# Altium footprint library Imperial_Thru_Hole.PcbLib: 76 footprints (part 5 of 5)
Each footprint in its own frame and in the unit in brackets; x right, y up, seen from the top. Pads: shape width x height; smd on the part's side, far side on the other; paste and mask are expansions set on the pad; w line width, h text height; cw(c..) or ccw(c..) is an arc to the next point about the centre after c.
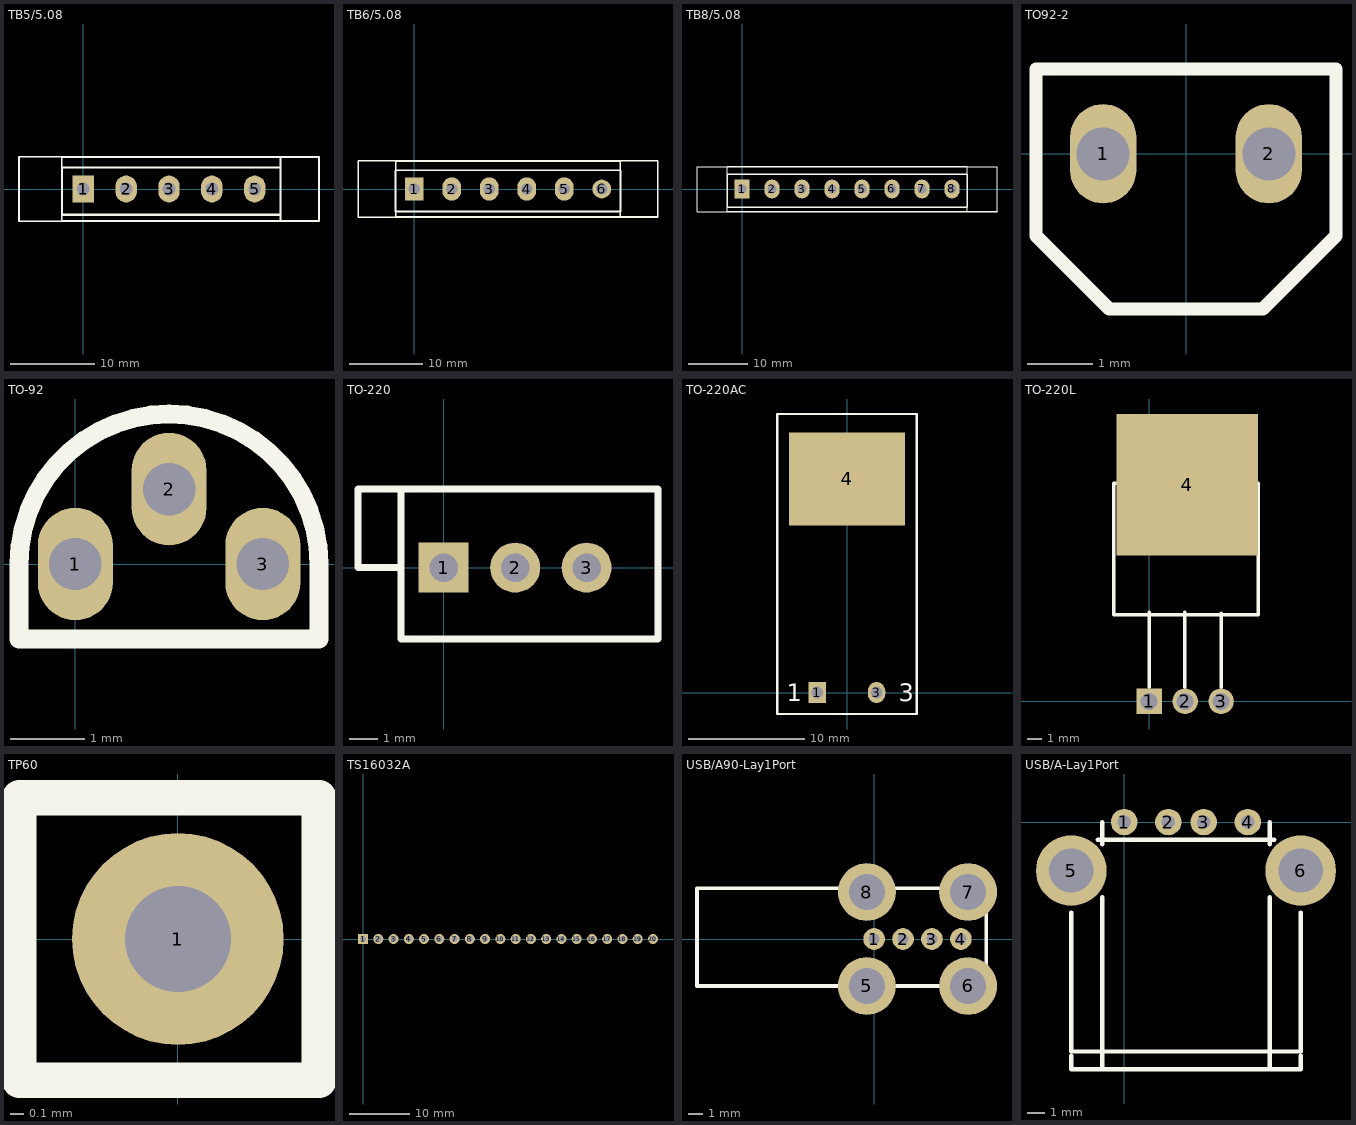
[diagram p4: the footprints below, top view; thin cyan lines are the x and y axes]

## TB5/5.08 [mil] "菲尼克斯5pin座patch=5.08mm/200mil"
height 120
pads (5):
  rect 100x125 hole 60: 1(0,0)
  oval 100x125 hole 60: 2(200,0) 3(400,0) 4(600,0) 5(800,0)
Top Overlay:
  lines w8: 920,-150 920,150 ; 1100,-150 1100,150 ; -100,-150 -100,150 ; -100,-150 -300,-150 -300,-100 -300,100 -300,150 -100,150 ; -100,-150 -100,150
  lines w10: -100,-150 1100,-150 ; -100,150 1100,150 ; 920,-120 -100,-120 -100,100 920,100
3D body "1776537.stp": height 338.58, standoff -137.8, extent -300,-80 1100,392.53

## TB6/5.08 [mil] "菲尼克斯6pin座patch=5.08mm/200mil"
height 120
pads (6):
  rect 100x125 hole 60: 1(0,0)
  oval 100x125 hole 60: 2(200,0) 3(400,0) 4(600,0) 5(800,0)
  round 100 hole 60: 6(1000,0)
Top Overlay:
  lines w8: 1300,-149 1300,-100 1300,100 1300,150 1100,150 ; -100,-150 -100,150 ; -100,-150 -300,-150 -300,-100 -300,100 -300,150 -100,150 ; -100,-150 -100,150 ; 1100,150 1100,-150 1100,150
  lines w10: -100,-150 1100,-150 1299,-150 ; -100,150 1100,150 ; -100,-120 1100,-120 1100,100 -100,100 -100,-120
3D body: height 199.92, standoff 120.08, extent 960.32,-280 1040,20
3D body: height 199.92, standoff 120.08, extent 760.32,-280 840,20
3D body: height 199.92, standoff 120.08, extent 560.32,-280 640,20
3D body: height 199.92, standoff 120.08, extent 360.32,-280 440,20
3D body: height 199.92, standoff 120.08, extent 160.32,-280 240,20
3D body: height 199.92, standoff 120.08, extent -39.68,-280 40,20
3D body: height 40, standoff 1, extent -300,-310 1300,130
3D body: height 320, standoff 1, extent -295,-20 1305,140
3D body: height 320, standoff 1, extent -300,-310 -220,140
3D body: height 320, standoff 1, extent 1300,-310 1380,140
3D body: height 320, standoff 280, extent -260,-310 1340,130

## TB8/5.08 [mil] "菲尼克斯8pin座patch=5.08mm/200mil"
height 120
pads (8):
  rect 100x125 hole 60: 1(0,0)
  oval 100x125 hole 60: 2(200,0) 3(400,0) 4(600,0) 5(800,0) 6(1000,0) 7(1200,0) 8(1400,0)
Top Overlay:
  lines w8: 1100,150 1700,150 1700,-150 ; 1500,-150 1500,150 ; -100,-150 -100,150 ; -100,-150 -300,-150 -300,-100 -300,100 -300,150 -100,150 ; -100,-150 -100,150
  lines w10: -100,-150 1500,-150 ; -100,150 1500,150 ; 1100,-150 1700,-150 ; -100,-120 1500,-120 1500,100 -100,100 -100,-120
3D body: height 199.92, standoff 120.08, extent 960.32,-280 1040,20
3D body: height 199.92, standoff 120.08, extent 760.32,-280 840,20
3D body: height 199.92, standoff 120.08, extent 560.32,-280 640,20
3D body: height 199.92, standoff 120.08, extent 360.32,-280 440,20
3D body: height 199.92, standoff 120.08, extent 160.32,-280 240,20
3D body: height 199.92, standoff 120.08, extent -39.68,-280 40,20
3D body: height 40, standoff 1, extent -300,-310 1690,130
3D body: height 320, standoff 1, extent -295,-20 1690,140
3D body: height 320, standoff 1, extent -300,-310 -220,140
3D body: height 320, standoff 1, extent 1620,-310 1700,140
3D body: height 320, standoff 280, extent -260,-310 1690,130
3D body: height 199.92, standoff 120.08, extent 1160,-280 1239.68,20
3D body: height 199.92, standoff 120.08, extent 1360,-280 1439.68,20

## TO92-2 [mil]
pads (2):
  oval 40x60 hole 32: 1(-50,0) 2(50,0)
Top Overlay:
  lines w8: -90.55,51.18 -90.55,-49.45 -46.3,-93.7 46.3,-93.7 90.55,-49.45 90.55,51.18 ; -90,51.18 90,51.18
3D body "SW3dPS-TO-92B.STEP": height 275.59, standoff -158.38, extent -104.49,-94.49 84.49,60.23

## TO-92 [mil] "pitch=50mil"
height 160
pads (3):
  oval 40x60 hole 28: 1(0,0) 2(50,40) 3(100,0)
Top Overlay:
  lines w10: -30.06,0 cw(c49.97,0) 130,0 130,-40 -30,-40 -30,0
3D body "SW3dPS-TO-92B.STEP": height 275.59, standoff -158.38, extent -48.98,-57.36 140,97.36

## TO-220 [mil] "TO220立式封装"
height 393.7
pads (3):
  rect 70x70 hole 40: 1(0,0)
  round 70 hole 40: 2(100,0) 3(200,0)
Top Overlay:
  lines w10: -110,110 300,110 300,-100 -60,-100 -60,110 -120,110 -120,0 -60,0

## TO-220AC [mm] "TO-220AC CASE 221B STYLE2"
height 15.1
pads (3):
  rect 1.5x1.8 hole 1: 1(-2.55,0)
  oval 1.5x1.8 hole 1: 3(2.55,0)
  rect 10x8 smd mask+0.75: 4(0,18.415)
Top Overlay:
  lines w0.2: -6,24.003 -6,20.924 -6,2.85 -6,-1.85 -4.445,-1.85 4.572,-1.85 6,-1.85 6,2.85 6,20.859 6,23.972 ; -5.904,24.003 -2.921,24.003 5.969,24.003
  text "3" at 4.445,-0.762 h1.5
  text "1" at -5.207,-0.762 h1.5
3D body "User Library-TO-220AC_BENT.STEP": height 4.2, standoff -1.65, extent -5.334,-0.254 4.826,21.082

## TO-220L [mm] "TO-220卧式,2.54间距, 焊盘: 外径1.8mm,孔径1.2mm"
height 7
pads (4):
  rect 1.8x1.8 hole 1.2: 1(0,0)
  round 1.8 hole 1.2: 2(2.54,0) 3(5.08,0)
  rect 10x10 smd: 4(2.7,15.3)
Top Overlay:
  lines w0.254: 0,1 0,6.3 ; 2.5,1 2.5,6.3 ; 5.1,1 5.1,6.2 ; -2.5,6.1 7.7,6.1 7.7,15.4 -2.5,15.4 -2.5,6.1
3D body: height 1.27, standoff 0, extent 4.734,-0.158 5.242,0.35
3D body: height 1.27, standoff 0.89, extent 4.734,0.254 5.242,6.076
3D body: height 1.27, standoff 0, extent 2.194,-0.158 2.702,0.35
3D body: height 1.27, standoff 0.89, extent 2.194,0.254 2.702,6.076
3D body: height 1.27, standoff 0, extent -2.546,15.106 7.954,19.812
3D body: height 1.27, standoff 0.89, extent -0.346,0.254 0.162,6.076
3D body: height 1.27, standoff 0, extent -0.346,-0.158 0.162,0.35
3D body: height 2.4, standoff 0, extent -2.446,6.194 7.934,15.084
3D body: height 1.32, standoff 0, extent 1.27,16.002 4.306,19.044
3D body: height 1.3, standoff 0, extent 0.762,15.494 4.81,19.55

## TP60 [mil]
pads (1):
  round 60 hole 30: 1(0,0)
Top Overlay:
  lines w10: -45,-40 40,-40 40,40 -45,40 -45,-40

## TS16032A [mil] "TS16032A LCM"
height 196.85
pads (20):
  rect 66x66 hole 40: 1(0,0)
  round 66 hole 40: 2(100,0) 3(200,0) 4(300,0) 5(400,0) 6(500,0) 7(600,0) 8(700,0) 9(800,0) 10(900,0) 11(1000,0) 12(1100,0) 13(1200,0) 14(1300,0) 15(1400,0) 16(1500,0) 17(1600,0) 18(1700,0) 19(1800,0) 20(1900,0)

## USB/A90-Lay1Port [mil] "A型USB插座1口竖型90度侧卧式"
height 600
pads (8):
  round 60 hole 30: 1(0,0) 2(80,0) 3(160,0) 4(240,0)
  round 160 hole 100: 5(-20,-130) 6(260,-130) 7(260,130) 8(-20,130)
Top Overlay:
  lines w10: -490,-130 -490,140 310,140 310,-130 -490,-130
3D body: height 440, standoff 60, extent -500,-120 -470,120
3D body: height 560, standoff 1, extent -490,-130 310,140

## USB/A-Lay1Port [mil] "A型USB插座1口卧式"
height 280
pads (6):
  round 60 hole 30: 1(0,0) 2(100,0) 3(180,0) 4(280,0)
  round 160 hole 100: 5(-120,-110) 6(400,-110)
Top Overlay:
  lines w10: -120,-530 -120,-560 400,-560 400,-530 ; -120,-205 -120,-520 400,-520 400,-205 ; -60,-40 340,-40 ; -50,-560 -50,-170 ; -50,-50 -50,0 ; 330,-560 330,-170 ; 330,-50 330,0